# Altium footprint library pmu.PcbLib: 12 footprints
Each footprint in its own frame and in the unit in brackets; x right, y up, seen from the top. Pads: shape width x height; smd on the part's side, far side on the other; paste and mask are expansions set on the pad; w line width, h text height; cw(c..) or ccw(c..) is an arc to the next point about the centre after c.
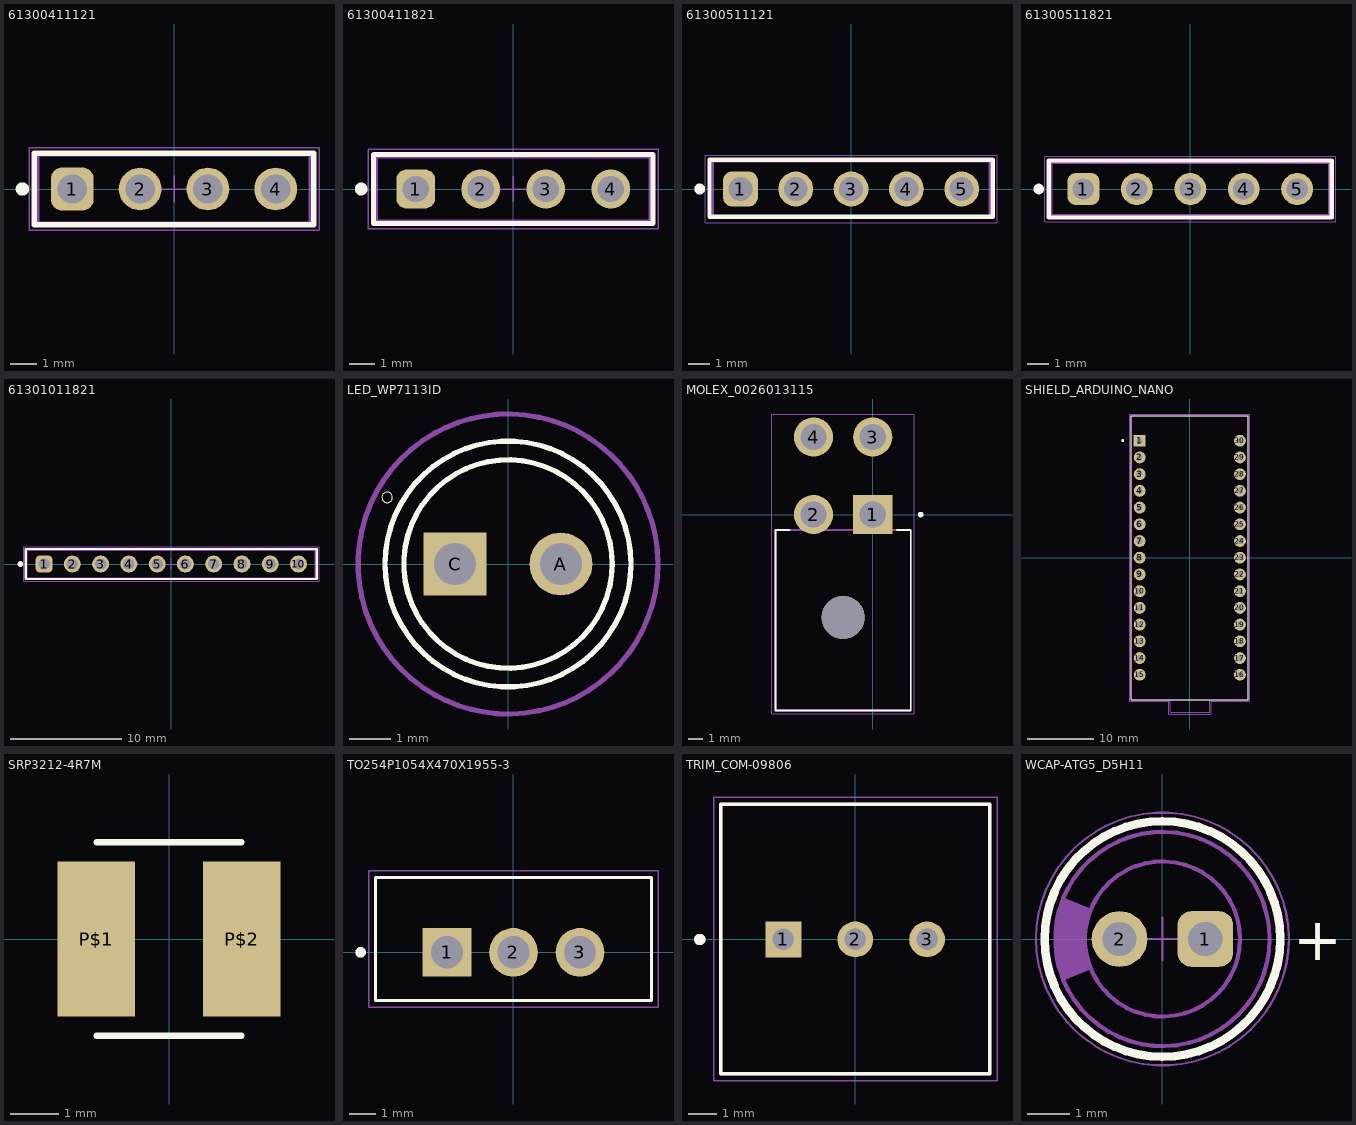
[diagram p0: the footprints below, top view; thin cyan lines are the x and y axes]

## 61300411121 [mm] "Pin Header, pitch 2.54 mm, THT, Vertical, single row, 4p"
height 8.54
pads (4):
  rrect50% 1.6x1.6 hole 1.1: 1(-3.81,0)
  round 1.6 hole 1.1: 2(-1.27,0) 3(1.27,0) 4(3.81,0)
Top Overlay:
  circle w0.25: c-5.68,0 r0.125
  lines w0.2: -5.23,-1.345 -5.23,1.345 5.23,1.345 5.23,-1.345 -5.23,-1.345
Top Courtyard:
  lines w0.05: -5.43,-1.545 5.43,-1.545 5.43,1.545 -5.43,1.545 -5.43,-1.545
Top Designator:
  text ".Designator" at -7.498,-0.5 h1.5
Top Component Outline:
  lines w0.1: -5.08,-1.27 5.08,-1.27 5.08,1.27 -5.08,1.27 -5.08,-1.27
Top Component Center:
  lines w0.05: -0.5,0 0.5,0 ; 0,-0.5 0,0.5
3D body "61300411121.stp": height 8.57, standoff -2.97, extent -5.08,-1.27 5.08,1.27

## 61300411821 [mm] "Socket Header, Pitch 2.54 mm, THT, Vertical, single row, 4p"
height 8.5
pads (4):
  rrect50% 1.52x1.52 hole 1.02: 1(-3.81,0)
  round 1.52 hole 1.02: 2(-1.27,0) 3(1.27,0) 4(3.81,0)
Top Overlay:
  circle w0.25: c-5.94,0 r0.125
  lines w0.2: -5.455,-1.35 5.455,-1.35 5.455,1.35 -5.455,1.35 -5.455,-1.35
Top Courtyard:
  lines w0.05: -5.655,-1.55 5.655,-1.55 5.655,1.55 -5.655,1.55 -5.655,-1.55
Top Designator:
  text ".Designator" at -7.498,-0.5 h1.5
Top Component Outline:
  lines w0.1: -5.33,-1.25 5.33,-1.25 5.33,1.25 -5.33,1.25 -5.33,-1.25
Top Component Center:
  lines w0.05: -0.5,0 0.5,0 ; 0,-0.5 0,0.5
3D body "61300411821.stp": height 8.55, standoff -3.05, extent -5.33,-1.25 5.33,1.25

## 61300511121 [mm] "Pin Header, pitch 2.54 mm, THT, Vertical, single row, 5p"
height 8.54
pads (5):
  rrect50% 1.6x1.6 hole 1.1: 1(-5.08,0)
  round 1.6 hole 1.1: 2(-2.54,0) 3(0,0) 4(2.54,0) 5(5.08,0)
Top Overlay:
  circle w0.25: c-6.95,0 r0.125
  lines w0.2: -6.5,-1.27 -6.5,1.345 6.5,1.345 6.5,-1.27 -6.5,-1.27
Top Courtyard:
  lines w0.05: -6.7,-1.545 -6.7,1.545 6.7,1.545 6.7,-1.545 -6.7,-1.545
Top Designator:
  text ".Designator" at -7.498,-0.5 h1.5
Top Component Outline:
  lines w0.1: -6.35,-1.27 6.35,-1.27 6.35,1.27 -6.35,1.27 -6.35,-1.27
Top Component Center:
  lines w0.05: -0.5,0 0.5,0 ; 0,-0.5 0,0.5
3D body "61300511121.stp": height 8.57, standoff -2.97, extent -6.35,-1.27 6.35,1.27

## 61300511821 [mm] "Socket Header, Pitch 2.54 mm, THT, Vertical, single row, 5p"
height 8.5
pads (5):
  rrect50% 1.52x1.52 hole 1.02: 1(-5.08,0)
  round 1.52 hole 1.02: 2(-2.54,0) 3(0,0) 4(2.54,0) 5(5.08,0)
Top Overlay:
  circle w0.25: c-7.21,0 r0.125
  lines w0.2: -6.725,-1.35 -6.725,1.35 6.725,1.35 6.725,-1.35 -6.725,-1.35
Top Courtyard:
  lines w0.05: -6.925,-1.55 -6.925,1.55 6.925,1.55 6.925,-1.55 -6.925,-1.55
Top Designator:
  text ".Designator" at -7.498,-0.5 h1.5
Top Component Outline:
  lines w0.1: -6.6,-1.25 -6.6,1.25 6.6,1.25 6.6,-1.25 -6.6,-1.25
Top Component Center:
  lines w0.05: -0.5,0 0.5,0 ; 0,-0.5 0,0.5
3D body "61300511821.stp": height 8.55, standoff -3.06, extent -6.6,-1.25 6.6,1.25

## 61301011821 [mm] "Socket Header, Pitch 2.54 mm, THT, Vertical, single row, 10p"
height 8.5
pads (10):
  rrect50% 1.52x1.52 hole 1.02: 1(-11.43,0)
  round 1.52 hole 1.02: 2(-8.89,0) 3(-6.35,0) 4(-3.81,0) 5(-1.27,0) 6(1.27,0) 7(3.81,0) 8(6.35,0) 9(8.89,0) 10(11.43,0)
Top Overlay:
  circle w0.25: c-13.56,0 r0.125
  lines w0.2: -13.075,-1.35 -13.075,1.35 13.075,1.35 13.075,-1.35 -13.075,-1.35
Top Courtyard:
  lines w0.05: -13.275,-1.55 -13.275,1.55 13.275,1.55 13.275,-1.55 -13.275,-1.55
Top Designator:
  text ".Designator" at -7.498,-0.5 h1.5
Top Component Outline:
  lines w0.1: -12.95,-1.25 -12.95,1.25 12.95,1.25 12.95,-1.25 -12.95,-1.25
Top Component Center:
  lines w0.05: -0.5,0 0.5,0 ; 0,-0.5 0,0.5
3D body "61301011821.stp": height 8.55, standoff -3.06, extent -12.95,-1.25 12.95,1.25

## LED_WP7113ID [mm]
pads (2):
  round 1.508 hole 1: A(1.27,0)
  rect 1.508x1.508 / inner round 1.508 / far side rect 1.508x1.508 hole 1: C(-1.27,0)
Top Overlay:
  circle w0: c-2.9,1.6 r0.127
  circle w0.127: c0,0 r2.5
  circle w0.127: c0,0 r2.95
Mechanical 15:
  circle w0.127: c0,0 r3.6
3D body "step_temp.STEP": height 9.6, standoff -26, extent -2.5,-2.95 2.95,2.95

## MOLEX_0026013115 [mm]
pads (5):
  rect 2.775x2.775 hole 1.85: 1(0,0)
  round 2.775 hole 1.85: 2(-4.2,0) 3(0,5.5) 4(-4.2,5.5)
  round 3.05 hole 3.05 unplated: ""(-2.1,-7.3)
Top Overlay:
  circle w0.2: c3.4,0 r0.1
  lines w0.127: -5.91,-1.1 -6.9,-1.1 -6.9,-13.9 2.7,-13.9 2.7,-1.1 1.71,-1.1
Mechanical 13:
  circle w0.2: c3.4,0 r0.1
  lines w0.127: -6.9,-13.9 2.7,-13.9 2.7,-1.1 -6.9,-1.1 -6.9,-13.9
Mechanical 15:
  lines w0.05: -7.15,-14.15 2.95,-14.15 2.95,7.14 -7.15,7.14 -7.15,-14.15
3D body "0026013115--3DModel-STEP-56544.STEP": height 11.4, standoff -4.36, extent -6.822,-13.777 3.175,6.158

## SHIELD_ARDUINO_NANO [mm]
pads (30):
  rect 1.8x1.8 / inner round 1.8 / far side rect 1.8x1.8 hole 0.9: 1(-7.62,17.78)
  round 1.8 hole 0.9: 2(-7.62,15.24) 3(-7.62,12.7) 4(-7.62,10.16) 5(-7.62,7.62) 6(-7.62,5.08) 7(-7.62,2.54) 8(-7.62,0) 9(-7.62,-2.54) 10(-7.62,-5.08) 11(-7.62,-7.62) 12(-7.62,-10.16) 13(-7.62,-12.7) 14(-7.62,-15.24) 15(-7.62,-17.78) 16(7.62,-17.78) 17(7.62,-15.24) 18(7.62,-12.7) 19(7.62,-10.16) 20(7.62,-7.62) 21(7.62,-5.08) 22(7.62,-2.54) 23(7.62,0) 24(7.62,2.54) 25(7.62,5.08) 26(7.62,7.62) 27(7.62,10.16) 28(7.62,12.7) 29(7.62,15.24) 30(7.62,17.78)
Top Overlay:
  circle w0.2: c-10.2,17.8 r0.1
  lines w0.127: -8.89,-21.59 -8.89,21.59 8.89,21.59 8.89,-21.59 -8.89,-21.59
Mechanical 13:
  circle w0.2: c-10.2,17.8 r0.1
  lines w0.127: -2.97,-21.59 -2.97,-23.495 3,-23.495 3,-21.59 ; -2.97,-21.59 -8.89,-21.59 -8.89,21.59 8.89,21.59 8.89,-21.59 3,-21.59 ; -2.97,-21.59 3,-21.59
Mechanical 15:
  lines w0.05: -9.14,-21.84 -3.22,-21.84 -3.22,-23.745 3.25,-23.745 3.25,-21.84 9.14,-21.84 9.14,21.84 -9.14,21.84 -9.14,-21.84
3D body "step_temp.STEP": height 12.6, standoff -6, extent -9,-21.6 9,23.4

## SRP3212-4R7M [mm]
pads (2):
  rect 1.6x3.2 smd: P$1(-1.5,0) P$2(1.5,0)
Top Overlay:
  lines w0.127: -1.5,-2 1.5,-2 ; -1.5,2 1.5,2

## TO254P1054X470X1955-3 [mm]
pads (3):
  rect 1.86x1.86 hole 1.24: 1(-2.54,0)
  round 1.86 hole 1.24: 2(0,0) 3(2.54,0)
Top Overlay:
  circle w0.2: c-5.84,0 r0.1
  lines w0.127: -5.27,-1.84 5.27,-1.84 5.27,2.86 -5.27,2.86 -5.27,-1.84
Mechanical 13:
  circle w0.2: c-5.84,0 r0.1
  lines w0.127: -5.27,-1.84 5.27,-1.84 5.27,2.86 -5.27,2.86 -5.27,-1.84
Mechanical 15:
  lines w0.05: -5.52,-2.09 5.52,-2.09 5.52,3.11 -5.52,3.11 -5.52,-2.09

## TRIM_COM-09806 [mm]
pads (3):
  rect 1.268x1.268 hole 0.76: 1(-2.54,0)
  round 1.268 hole 0.76: 2(0,0) 3(2.54,0)
Top Overlay:
  circle w0.2: c-5.5,0 r0.1
  lines w0.127: -4.765,-4.75 -4.765,4.78 4.765,4.78 4.765,-4.75 -4.765,-4.75
Mechanical 13:
  circle w0.2: c-5.5,0 r0.1
  lines w0.127: -4.765,-4.75 4.765,-4.75 4.765,4.78 -4.765,4.78 -4.765,-4.75
Mechanical 15:
  lines w0.05: -5.015,-5 -5.015,5.03 5.015,5.03 5.015,-5 -5.015,-5

## WCAP-ATG5_D5H11 [mm] "Aluminum Electrolytic Capacitors, 5x11mm"
height 11
pads (2):
  rrect50% 1.3x1.3 hole 0.8: 1(1,0)
  round 1.3 hole 0.8: 2(-1,0)
Top Overlay:
  circle w0.2: c0,0 r2.75
  text "+" at 3.05,-0.5 h1
Top Courtyard:
  circle w0.05: c0,0 r2.95
  lines w0.05: -0.5,0 0.5,0 ; 0,-0.5 0,0.5
Top Designator:
  text ".Designator" at -4.998,-0.333 h1
Top Component Outline:
  circle w0.1: c0,0 r2.5
  circle w0.1: c0,0 r1.81
  region: -2.305,-0.968 -1.668,-0.702 -1.669,-0.701 -1.73,-0.532 -1.801,-0.18 -1.801,0.18 -1.73,0.532 -1.669,0.701 -1.668,0.702 -2.305,0.968 -2.402,0.738 -2.5,0.249 -2.5,-0.249 -2.402,-0.738
3D body "5x11x2x0.5.stp": height 11.31, standoff -19.91, extent -2.49,-2.5 2.5,2.5